# Altium integrated library AP7331-18WG-7.IntLib: 1 symbol
Pins are listed as number, name and electrical type; pins without a type are passive.

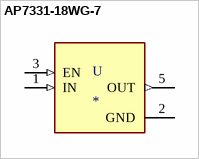
[diagram p0: symbol AP7331-18WG-7]

## AP7331-18WG-7
designator U
Linear Voltage Regulator IC 1 Output 300mA SOT-25; MP: AP7331-18WG-7; MF: Diodes Inc.; Package: SOT-753 Diodes Inc.; Availability: Unavailable; Price: None; SnapEDA_Link: https://www.snapeda.com/parts/AP7331-18WG-7/Diodes%20Inc./view-part/494406/?ref=snap; Value: *
footprint SOT95P285X145-5N
pins: 1 IN (in), 2 GND (power), 3 EN (in), 5 OUT (out)